# Altium integrated library DragonBoard_8074.IntLib: 1 symbol
Pins are listed as number, name and electrical type; pins without a type are passive.

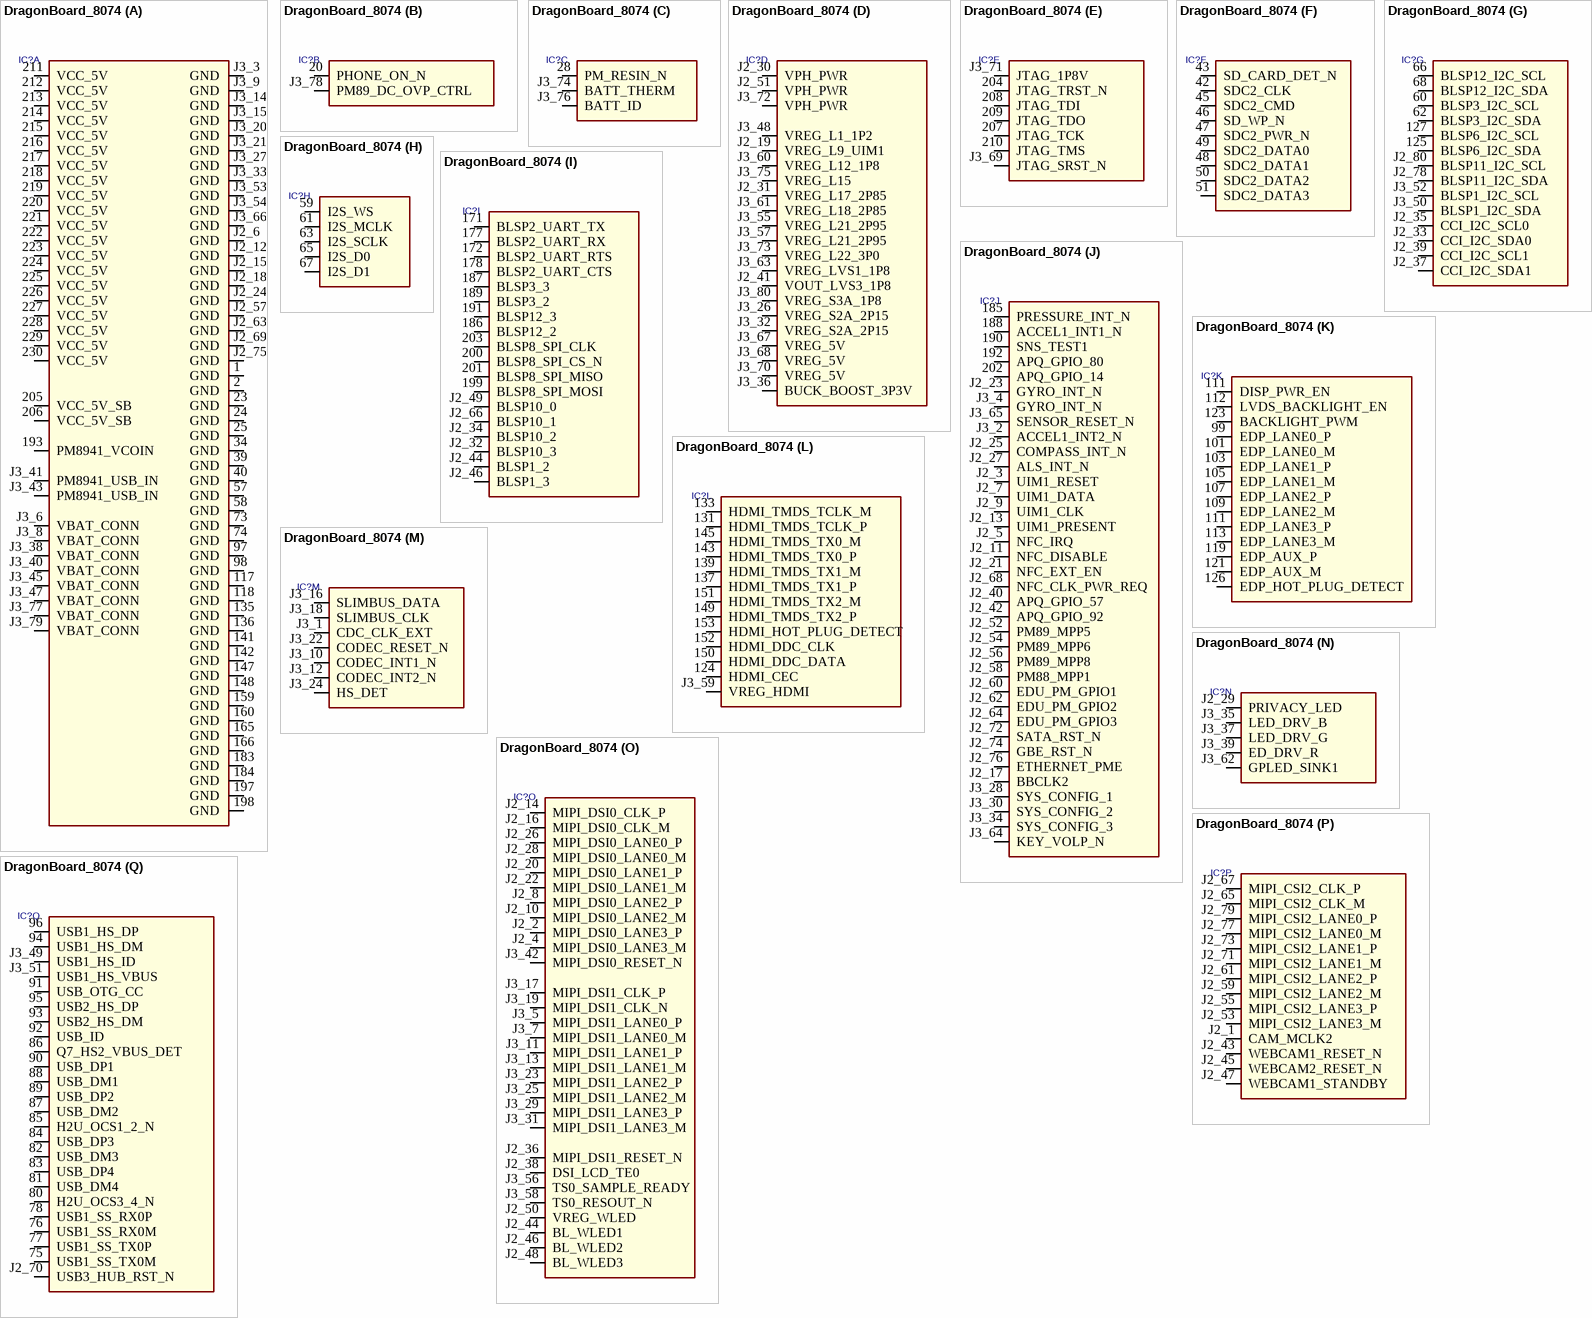
[diagram p0: symbol DragonBoard_8074]

## DragonBoard_8074
designator IC?  (value not drawn)
footprint DragonBoard_8074
part A pins: 1 GND, 2 GND, 23 GND, 24 GND, 25 GND, 34 GND, 39 GND, 40 GND, 57 GND, 58 GND, 73 GND, 74 GND, 97 GND, 98 GND, 117 GND, 118 GND, 135 GND, 136 GND, 141 GND, 142 GND, 147 GND, 148 GND, 159 GND, 160 GND, 165 GND, 166 GND, 183 GND, 184 GND, 193 PM8941_VCOIN, 197 GND, 198 GND, 205 VCC_5V_SB, 206 VCC_5V_SB, 211 VCC_5V , 212 VCC_5V , 213 VCC_5V , 214 VCC_5V , 215 VCC_5V , 216 VCC_5V , 217 VCC_5V , 218 VCC_5V , 219 VCC_5V , 220 VCC_5V , 221 VCC_5V , 222 VCC_5V , 223 VCC_5V , 224 VCC_5V , 225 VCC_5V , 226 VCC_5V , 227 VCC_5V , 228 VCC_5V , 229 VCC_5V , 230 VCC_5V , J2_6 GND, J2_12 GND, J2_15 GND, J2_18 GND, J2_24 GND, J2_57 GND, J2_63 GND, J2_69 GND, J2_75 GND, J3_3 GND, J3_6 VBAT_CONN, J3_8 VBAT_CONN, J3_9 GND, J3_14 GND, J3_15 GND, J3_20 GND, J3_21 GND, J3_27 GND, J3_33 GND, J3_38 VBAT_CONN, J3_40 VBAT_CONN, J3_41 PM8941_USB_IN , J3_43 PM8941_USB_IN , J3_45 VBAT_CONN, J3_47 VBAT_CONN, J3_53 GND, J3_54 GND, J3_66 GND, J3_77 VBAT_CONN, J3_79 VBAT_CONN
part B pins: 20 PHONE_ON_N , J3_78 PM89_DC_OVP_CTRL
part C pins: 28 PM_RESIN_N , J3_74 BATT_THERM , J3_76 BATT_ID 
part D pins: J2_19 VREG_L9_UIM1, J2_30 VPH_PWR , J2_31 VREG_L17_2P85 , J2_41 VOUT_LVS3_1P8 , J2_51 VPH_PWR , J3_26 VREG_S2A_2P15 , J3_32 VREG_S2A_2P15 , J3_36 BUCK_BOOST_3P3V , J3_48 VREG_L1_1P2 , J3_55 VREG_L21_2P95 , J3_57 VREG_L21_2P95 , J3_60 VREG_L12_1P8 , J3_61 VREG_L18_2P85 , J3_63 VREG_LVS1_1P8 , J3_67 VREG_5V, J3_68 VREG_5V, J3_70 VREG_5V, J3_72 VPH_PWR , J3_73 VREG_L22_3P0 , J3_75 VREG_L15 , J3_80 VREG_S3A_1P8 
part E pins: 204 JTAG_TRST_N , 207 JTAG_TCK , 208 JTAG_TDI , 209 JTAG_TDO, 210 JTAG_TMS , J3_69 JTAG_SRST_N , J3_71 JTAG_1P8V 
part F pins: 42 SDC2_CLK , 43 SD_CARD_DET_N, 45 SDC2_CMD , 46 SD_WP_N , 47 SDC2_PWR_N , 48 SDC2_DATA1, 49 SDC2_DATA0, 50 SDC2_DATA2, 51 SDC2_DATA3
part G pins: 60 BLSP3_I2C_SCL , 62 BLSP3_I2C_SDA , 66 BLSP12_I2C_SCL , 68 BLSP12_I2C_SDA , 125 BLSP6_I2C_SDA , 127 BLSP6_I2C_SCL , J2_33 CCI_I2C_SDA0 , J2_35 CCI_I2C_SCL0 , J2_37 CCI_I2C_SDA1 , J2_39 CCI_I2C_SCL1 , J2_78 BLSP11_I2C_SDA , J2_80 BLSP11_I2C_SCL , J3_50 BLSP1_I2C_SDA , J3_52 BLSP1_I2C_SCL 
part H pins: 59 I2S_WS, 61 I2S_MCLK , 63 I2S_SCLK , 65 I2S_D0 , 67 I2S_D1 
part I pins: 171 BLSP2_UART_TX , 172 BLSP2_UART_RTS , 177 BLSP2_UART_RX, 178 BLSP2_UART_CTS , 186 BLSP12_2 , 187 BLSP3_3 , 189 BLSP3_2 , 191 BLSP12_3 , 199 BLSP8_SPI_MOSI , 200 BLSP8_SPI_CS_N , 201 BLSP8_SPI_MISO , 203 BLSP8_SPI_CLK , J2_32 BLSP10_3 , J2_34 BLSP10_2 , J2_44 BLSP1_2 , J2_46 BLSP1_3, J2_49 BLSP10_0 , J2_66 BLSP10_1 
part J pins: 185 PRESSURE_INT_N , 188 ACCEL1_INT1_N , 190 SNS_TEST1 , 192 APQ_GPIO_80, 202 APQ_GPIO_14 , J2_3 UIM1_RESET  , J2_5 NFC_IRQ, J2_7 UIM1_DATA , J2_9 UIM1_CLK , J2_11 NFC_DISABLE , J2_13 UIM1_PRESENT , J2_17 BBCLK2, J2_21 NFC_EXT_EN , J2_23 GYRO_INT_N  , J2_25 COMPASS_INT_N  , J2_27 ALS_INT_N  , J2_40 APQ_GPIO_57, J2_42 APQ_GPIO_92 , J2_52 PM89_MPP5, J2_54 PM89_MPP6, J2_56 PM89_MPP8 , J2_58 PM88_MPP1 , J2_60 EDU_PM_GPIO1 , J2_62 EDU_PM_GPIO2, J2_64 EDU_PM_GPIO3 , J2_68 NFC_CLK_PWR_REQ, J2_72 SATA_RST_N, J2_74 GBE_RST_N , J2_76 ETHERNET_PME , J3_2 ACCEL1_INT2_N  , J3_4 GYRO_INT_N  , J3_28 SYS_CONFIG_1, J3_30 SYS_CONFIG_2, J3_34 SYS_CONFIG_3, J3_64 KEY_VOLP_N, J3_65 SENSOR_RESET_N  
part K pins: 99 EDP_LANE0_P, 101 EDP_LANE0_M, 103 EDP_LANE1_P, 105 EDP_LANE1_M, 107 EDP_LANE2_P, 109 EDP_LANE2_M, 111 DISP_PWR_EN, 111 EDP_LANE3_P, 112 LVDS_BACKLIGHT_EN, 113 EDP_LANE3_M, 119 EDP_AUX_P, 121 EDP_AUX_M, 123 BACKLIGHT_PWM, 126 EDP_HOT_PLUG_DETECT
part L pins: 124 HDMI_CEC , 131 HDMI_TMDS_TCLK_P, 133 HDMI_TMDS_TCLK_M, 137 HDMI_TMDS_TX1_P, 139 HDMI_TMDS_TX1_M, 143 HDMI_TMDS_TX0_P, 145 HDMI_TMDS_TX0_M, 149 HDMI_TMDS_TX2_P, 150 HDMI_DDC_DATA , 151 HDMI_TMDS_TX2_M, 152 HDMI_DDC_CLK, 153 HDMI_HOT_PLUG_DETECT , J3_59 VREG_HDMI 
part M pins: J3_1 CDC_CLK_EXT , J3_10 CODEC_INT1_N , J3_12 CODEC_INT2_N , J3_16 SLIMBUS_DATA , J3_18 SLIMBUS_CLK , J3_22 CODEC_RESET_N  , J3_24 HS_DET 
part N pins: J2_29 PRIVACY_LED , J3_35 LED_DRV_B , J3_37 LED_DRV_G , J3_39 ED_DRV_R , J3_62 GPLED_SINK1
part O pins: J2_2 MIPI_DSI0_LANE3_P, J2_4 MIPI_DSI0_LANE3_M, J2_8 MIPI_DSI0_LANE2_P, J2_10 MIPI_DSI0_LANE2_M, J2_14 MIPI_DSI0_CLK_P, J2_16 MIPI_DSI0_CLK_M, J2_20 MIPI_DSI0_LANE1_P, J2_22 MIPI_DSI0_LANE1_M, J2_26 MIPI_DSI0_LANE0_P, J2_28 MIPI_DSI0_LANE0_M, J2_36 MIPI_DSI1_RESET_N , J2_38 DSI_LCD_TE0, J2_44 BL_WLED1, J2_46 BL_WLED2, J2_48 BL_WLED3, J2_50 VREG_WLED , J3_5 MIPI_DSI1_LANE0_P, J3_7 MIPI_DSI1_LANE0_M, J3_11 MIPI_DSI1_LANE1_P, J3_13 MIPI_DSI1_LANE1_M, J3_17 MIPI_DSI1_CLK_P, J3_19 MIPI_DSI1_CLK_N, J3_23 MIPI_DSI1_LANE2_P, J3_25 MIPI_DSI1_LANE2_M, J3_29 MIPI_DSI1_LANE3_P, J3_31 MIPI_DSI1_LANE3_M, J3_42 MIPI_DSI0_RESET_N , J3_56 TS0_SAMPLE_READY , J3_58 TS0_RESOUT_N 
part P pins: J2_1 CAM_MCLK2, J2_43 WEBCAM1_RESET_N, J2_45 WEBCAM2_RESET_N , J2_47 WEBCAM1_STANDBY, J2_53 MIPI_CSI2_LANE3_M, J2_55 MIPI_CSI2_LANE3_P, J2_59 MIPI_CSI2_LANE2_M, J2_61 MIPI_CSI2_LANE2_P, J2_65 MIPI_CSI2_CLK_M, J2_67 MIPI_CSI2_CLK_P, J2_71 MIPI_CSI2_LANE1_M, J2_73 MIPI_CSI2_LANE1_P, J2_77 MIPI_CSI2_LANE0_M, J2_79 MIPI_CSI2_LANE0_P
part Q pins: 75 USB1_SS_TX0M, 76 USB1_SS_RX0M, 77 USB1_SS_TX0P, 78 USB1_SS_RX0P, 80 H2U_OCS3_4_N, 81 USB_DM4, 82 USB_DM3, 83 USB_DP4, 84 USB_DP3, 85 H2U_OCS1_2_N , 86 Q7_HS2_VBUS_DET, 87 USB_DM2, 88 USB_DM1, 89 USB_DP2, 90 USB_DP1, 91 USB_OTG_CC , 92 USB_ID , 93 USB2_HS_DM, 94 USB1_HS_DM, 95 USB2_HS_DP, 96 USB1_HS_DP, J2_70 USB3_HUB_RST_N , J3_49 USB1_HS_ID, J3_51 USB1_HS_VBUS